# Altium integrated library National Semiconductor Interface.IntLib: 1433 symbols (part 51 of 51)
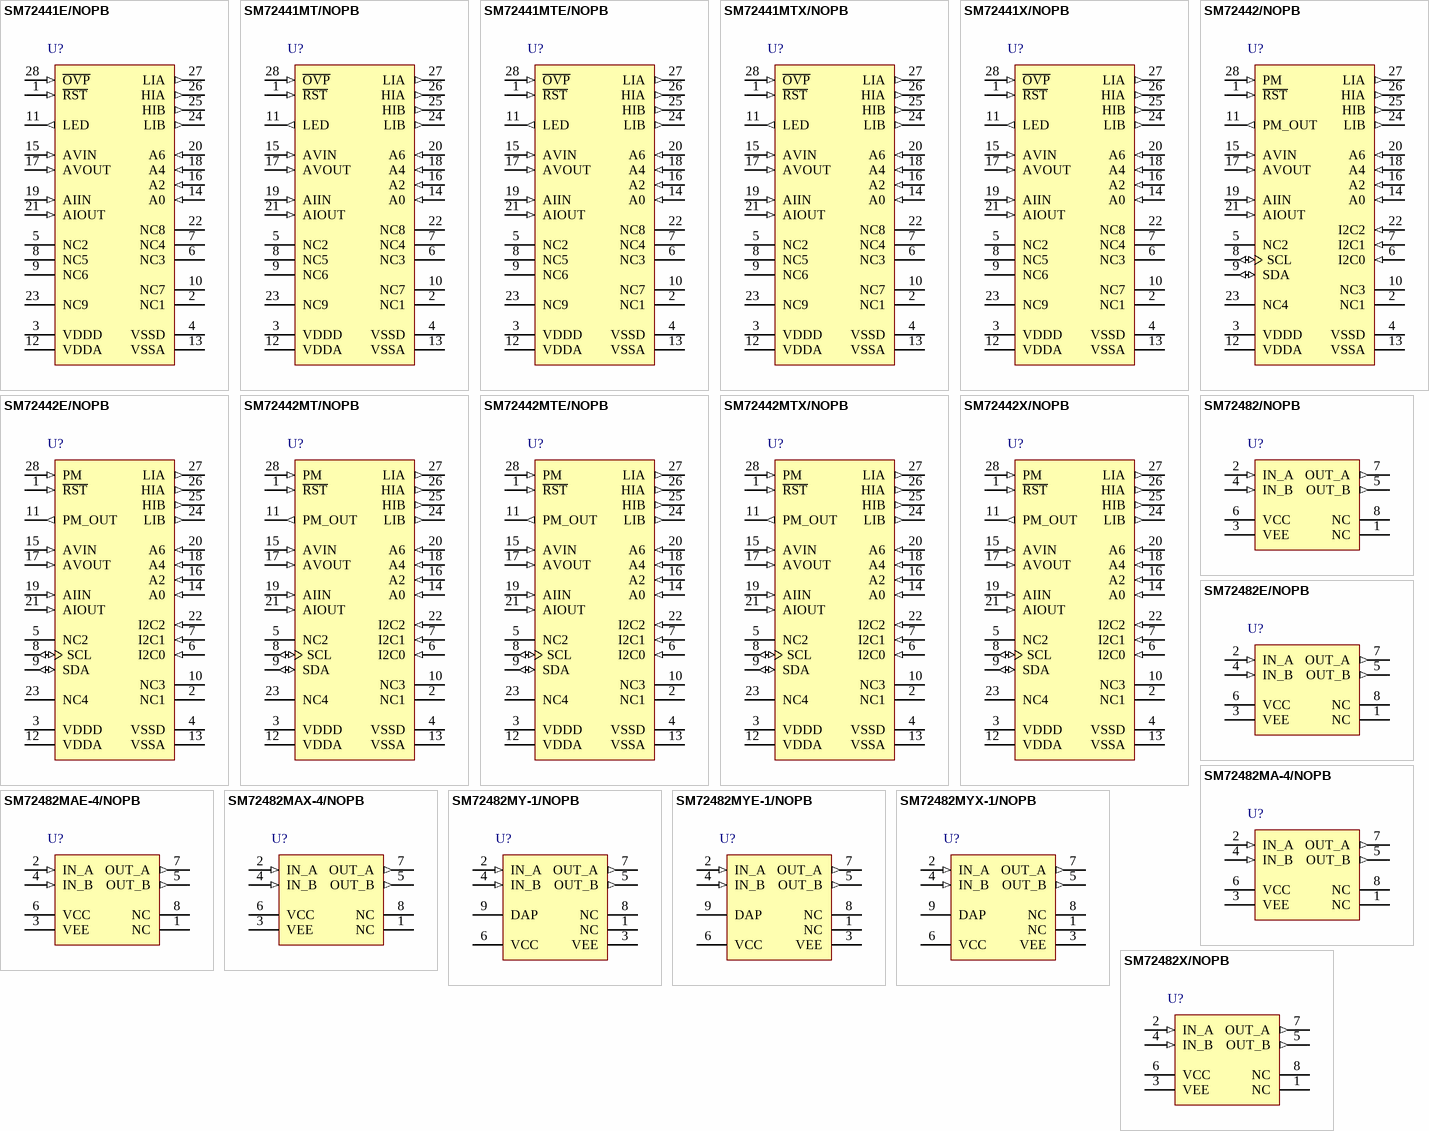
[diagram p174: symbols SM72441E/NOPB to SM72482X/NOPB]

## SM72442MTX/NOPB
designator U?
Programmable Maximum Power Point Tracking Controller for Photovoltaic Solar Panels, 28-pin TSSOP, 2500 Reel; PartNumber: SM72442MTX/NOPB; Manufacturer: National Semiconductor; PackageTopMarking: NSUZXYTTE#*SO2442; PowerWise: N; CompType: Interface IC; High-Reliability: Y; DatasheetVersion: May-2011; PackageVersion: revD, Jan-2005; PackageReference: MTC28; PackageDescription: Molded TSSOP, Jedec, 9.7 x 4.4 x 0.9mm Body, 28 Lead, 0.65mm Pitch; RoHS: Y; PinCount: 28; Code_JEDEC: MO-153-AE; ComponentLink1Description: Manufacturer URL; ComponentLink1URL: http://www.national.com/; ComponentLink2Description: SM72442 Datasheet; ComponentLink2URL: http://www.national.com/ds/SM/SM72442.pdf; ComponentLink3Description: SM72442 Web Page; ComponentLink3URL: http://www.national.com/pf/SM/SM72442.html; ComponentLink4Description: MTC28 Package Page; ComponentLink4URL: http://www.national.com/packaging/folders/mtc28.html
footprint MTC28_N (TSOP, 28-Leads, Body 9.7x4.4mm, Pitch 0.65mm, IPC Medium Density)
footprint MTC28_L (TSOP, 28-Leads, Body 9.7x4.4mm, Pitch 0.65mm, IPC High Density)
footprint MTC28_M (TSOP, 28-Leads, Body 9.7x4.4mm, Pitch 0.65mm, IPC Low Density)
pins: 1 ~{RST} (in) "Active low signal. External reset input signal to the digital circuit.", 2 NC1 "Reserved for test only. This pin should be grounded", 3 VDDD (power) "Digital supply voltage.", 4 VSSD (power) "Digital ground. The ground return for the digital supply and signals.", 5 NC2 "No Connect. This pin should be pulled up to the 5V supply using 10k resistor", 6 I2C0 (in) "Addressing for I2C communication", 7 I2C1 (in) "Addressing for I2C communication", 8 SCL (io) "I2C clock", 9 SDA (io) "I2C data", 10 NC3 "Reserved for test only. This pin should be grounded", 11 PM_OUT (out) "When Panel Mode is active, this pin will output a 400 kHz square wave signal with amplitude of 5V. Otherwise, it will stays low", 12 VDDA (power) "Analog supply voltage. This voltage is also used as the reference voltage.", 13 VSSA (power) "Analog ground. The ground return for the analog supply and signals.", 14 A0 (in) "A/D Input Channel 0. Connect a resistor divider to 5V supply to set the maximum output voltage.", 15 AVIN (in) "Input voltage sensing pin", 16 A2 (in) "A/D Input Channel 2. Connect a resistor divider to 5V supply to set the condition to enter and exit Panel Mode (PM).", 17 AVOUT (in) "Output voltage sensing pin", 18 A4 (in) "A/D Input Channel 4. Connect a resistor divider to 5V supply to set the maximum output current.", 19 AIIN (in) "Input current sensing pin", 20 A6 (in) "A/D Input Channel 6. Connect through resistor divider to 5V supply to set the output voltage slew rate and various PM configurations.", 21 AIOUT (in) "Output current sensing pin", 22 I2C2 (in) "Addressing for I2C communication", 23 NC4 "No Connect. This pin should be connected with 60.4k pull-up resistor to 5V.", 24 LIB (out) "Low side boost PWM output", 25 HIB (out) "High side boost PWM output", 26 HIA (out) "High side buck PWM output", 27 LIA (out) "Low side buck PWM output", 28 PM (in) "Panel Mode Pin. Active low. Pulling this pin low will force the chip in Panel Mode."

## SM72442X/NOPB
designator U?
Programmable Maximum Power Point Tracking Controller for Photovoltaic Solar Panels, 28-pin TSSOP, 2500 Reel; PartNumber: SM72442X/NOPB; Manufacturer: National Semiconductor; PackageTopMarking: NSUZXYTTE#*S02442; PowerWise: N; CompType: Interface IC; High-Reliability: Y; DatasheetVersion: Feb-2011; PackageVersion: revD, Jan-2005; PackageReference: MTC28; PackageDescription: Molded TSSOP, Jedec, 9.7 x 4.4 x 0.9mm Body, 28 Lead, 0.65mm Pitch; RoHS: Y; PinCount: 28; Code_JEDEC: MO-153-AE; ComponentLink1Description: Manufacturer URL; ComponentLink1URL: http://www.national.com/; ComponentLink2Description: SM72442 Datasheet; ComponentLink2URL: http://www.national.com/ds/SM/SM72442.pdf; ComponentLink3Description: SM72442 Web Page; ComponentLink3URL: http://www.national.com/pf/SM/SM72442.html; ComponentLink4Description: MTC28 Package Page; ComponentLink4URL: http://www.national.com/packaging/folders/mtc28.html
footprint MTC28_N (TSOP, 28-Leads, Body 9.7x4.4mm, Pitch 0.65mm, IPC Medium Density)
footprint MTC28_L (TSOP, 28-Leads, Body 9.7x4.4mm, Pitch 0.65mm, IPC High Density)
footprint MTC28_M (TSOP, 28-Leads, Body 9.7x4.4mm, Pitch 0.65mm, IPC Low Density)
pins: 1 ~{RST} (in) "Active low signal. External reset input signal to the digital circuit.", 2 NC1 "Reserved for test only. This pin should be grounded", 3 VDDD (power) "Digital supply voltage.", 4 VSSD (power) "Digital ground. The ground return for the digital supply and signals.", 5 NC2 "No Connect. This pin should be pulled up to the 5V supply using 10k resistor", 6 I2C0 (in) "Addressing for I2C communication", 7 I2C1 (in) "Addressing for I2C communication", 8 SCL (io) "I2C clock", 9 SDA (io) "I2C data", 10 NC3 "Reserved for test only. This pin should be grounded", 11 PM_OUT (out) "When Panel Mode is active, this pin will output a 400 kHz square wave signal with amplitude of 5V. Otherwise, it will stays low", 12 VDDA (power) "Analog supply voltage. This voltage is also used as the reference voltage.", 13 VSSA (power) "Analog ground. The ground return for the analog supply and signals.", 14 A0 (in) "A/D Input Channel 0. Connect a resistor divider to 5V supply to set the maximum output voltage.", 15 AVIN (in) "Input voltage sensing pin", 16 A2 (in) "A/D Input Channel 2. Connect a resistor divider to 5V supply to set the condition to enter and exit Panel Mode (PM).", 17 AVOUT (in) "Output voltage sensing pin", 18 A4 (in) "A/D Input Channel 4. Connect a resistor divider to 5V supply to set the maximum output current.", 19 AIIN (in) "Input current sensing pin", 20 A6 (in) "A/D Input Channel 6. Connect through resistor divider to 5V supply to set the output voltage slew rate and various PM configurations.", 21 AIOUT (in) "Output current sensing pin", 22 I2C2 (in) "Addressing for I2C communication", 23 NC4 "No Connect. This pin should be connected with 60.4k pull-up resistor to 5V.", 24 LIB (out) "Low side boost PWM output", 25 HIB (out) "High side boost PWM output", 26 HIA (out) "High side buck PWM output", 27 LIA (out) "Low side buck PWM output", 28 PM (in) "Panel Mode Pin. Active low. Pulling this pin low will force the chip in Panel Mode."

## SM72482/NOPB
designator U?
SolarMagic Dual 5A Compound Gate Driver, 8-pin Narrow SOIC, 2500 Reel; PartNumber: SM72482/NOPB; Manufacturer: National Semiconductor; PackageTopMarking: NSZXTT*S482; PowerWise: N; CompType: Interface IC; High-Reliability: Y; DatasheetVersion: Feb-2011; PackageVersion: revM, May-2009; PackageReference: M08A; PackageDescription: SOIC Narrow, 4.9 x 3.9 x 1.45mm, 8 Lead, 1.27mm Pitch; RoHS: Y; PinCount: 8; Code_JEDEC: MS-012-AA; Code_IPC: SOIC127P600-8; ComponentLink1Description: Manufacturer URL; ComponentLink1URL: http://www.national.com/; ComponentLink2Description: SM72482 Datasheet; ComponentLink2URL: http://www.national.com/ds/SM/SM72482.pdf; ComponentLink3Description: SM72482 Web Page; ComponentLink3URL: http://www.national.com/pf/SM/SM72482.html; ComponentLink4Description: M08A Package Page; ComponentLink4URL: http://www.national.com/packaging/folders/m08a.html
footprint M08A_N (SOIC, 8-Leads, Body 4.9x3.9mm, Pitch 1.27mm, IPC Medium Density)
footprint M08A_L (SOIC, 8-Leads, Body 4.9x3.9mm, Pitch 1.27mm, IPC High Density)
footprint M08A_M (SOIC, 8-Leads, Body 4.9x3.9mm, Pitch 1.27mm, IPC Low Density)
pins: 1 NC, 2 IN_A (in), 3 VEE (power), 4 IN_B (in), 5 OUT_B (out), 6 VCC (power), 7 OUT_A (out), 8 NC

## SM72482E/NOPB
designator U?
SolarMagic Dual 5A Compound Gate Driver, 8-pin Narrow SOIC, 250 Reel; PartNumber: SM72482E/NOPB; Manufacturer: National Semiconductor; PackageTopMarking: NSZXTT*S482; PowerWise: N; CompType: Interface IC; High-Reliability: Y; DatasheetVersion: Feb-2011; PackageVersion: revM, May-2009; PackageReference: M08A; PackageDescription: SOIC Narrow, 4.9 x 3.9 x 1.45mm, 8 Lead, 1.27mm Pitch; RoHS: Y; PinCount: 8; Code_JEDEC: MS-012-AA; Code_IPC: SOIC127P600-8; ComponentLink1Description: Manufacturer URL; ComponentLink1URL: http://www.national.com/; ComponentLink2Description: SM72482 Datasheet; ComponentLink2URL: http://www.national.com/ds/SM/SM72482.pdf; ComponentLink3Description: SM72482 Web Page; ComponentLink3URL: http://www.national.com/pf/SM/SM72482.html; ComponentLink4Description: M08A Package Page; ComponentLink4URL: http://www.national.com/packaging/folders/m08a.html
footprint M08A_N (SOIC, 8-Leads, Body 4.9x3.9mm, Pitch 1.27mm, IPC Medium Density)
footprint M08A_L (SOIC, 8-Leads, Body 4.9x3.9mm, Pitch 1.27mm, IPC High Density)
footprint M08A_M (SOIC, 8-Leads, Body 4.9x3.9mm, Pitch 1.27mm, IPC Low Density)
pins: 1 NC, 2 IN_A (in), 3 VEE (power), 4 IN_B (in), 5 OUT_B (out), 6 VCC (power), 7 OUT_A (out), 8 NC

## SM72482MA-4/NOPB
designator U?
SolarMagic Dual 5A Compound Gate Driver, 8-pin Narrow SOIC, 95 Rail; PartNumber: SM72482MA-4/NOPB; Manufacturer: National Semiconductor; PackageTopMarking: NSZXTT*S482; PowerWise: N; CompType: Interface IC; High-Reliability: Y; DatasheetVersion: May-2011; PackageVersion: revM, May-2009; PackageReference: M08A; PackageDescription: SOIC Narrow, 4.9 x 3.9 x 1.45mm, 8 Lead, 1.27mm Pitch; RoHS: Y; PinCount: 8; Code_JEDEC: MS-012-AA; Code_IPC: SOIC127P600-8; ComponentLink1Description: Manufacturer URL; ComponentLink1URL: http://www.national.com/; ComponentLink2Description: SM72482 Datasheet; ComponentLink2URL: http://www.national.com/ds/SM/SM72482.pdf; ComponentLink3Description: SM72482 Web Page; ComponentLink3URL: http://www.national.com/pf/SM/SM72482.html; ComponentLink4Description: M08A Package Page; ComponentLink4URL: http://www.national.com/packaging/folders/m08a.html
footprint M08A_N (SOIC, 8-Leads, Body 4.9x3.9mm, Pitch 1.27mm, IPC Medium Density)
footprint M08A_L (SOIC, 8-Leads, Body 4.9x3.9mm, Pitch 1.27mm, IPC High Density)
footprint M08A_M (SOIC, 8-Leads, Body 4.9x3.9mm, Pitch 1.27mm, IPC Low Density)
pins: 1 NC, 2 IN_A (in), 3 VEE (power), 4 IN_B (in), 5 OUT_B (out), 6 VCC (power), 7 OUT_A (out), 8 NC

## SM72482MAE-4/NOPB
designator U?
SolarMagic Dual 5A Compound Gate Driver, 8-pin Narrow SOIC, 250 Reel; PartNumber: SM72482MAE-4/NOPB; Manufacturer: National Semiconductor; PackageTopMarking: NSZXTT*S482; PowerWise: N; CompType: Interface IC; High-Reliability: Y; DatasheetVersion: May-2011; PackageVersion: revM, May-2009; PackageReference: M08A; PackageDescription: SOIC Narrow, 4.9 x 3.9 x 1.45mm, 8 Lead, 1.27mm Pitch; RoHS: Y; PinCount: 8; Code_JEDEC: MS-012-AA; Code_IPC: SOIC127P600-8; ComponentLink1Description: Manufacturer URL; ComponentLink1URL: http://www.national.com/; ComponentLink2Description: SM72482 Datasheet; ComponentLink2URL: http://www.national.com/ds/SM/SM72482.pdf; ComponentLink3Description: SM72482 Web Page; ComponentLink3URL: http://www.national.com/pf/SM/SM72482.html; ComponentLink4Description: M08A Package Page; ComponentLink4URL: http://www.national.com/packaging/folders/m08a.html
footprint M08A_N (SOIC, 8-Leads, Body 4.9x3.9mm, Pitch 1.27mm, IPC Medium Density)
footprint M08A_L (SOIC, 8-Leads, Body 4.9x3.9mm, Pitch 1.27mm, IPC High Density)
footprint M08A_M (SOIC, 8-Leads, Body 4.9x3.9mm, Pitch 1.27mm, IPC Low Density)
pins: 1 NC, 2 IN_A (in), 3 VEE (power), 4 IN_B (in), 5 OUT_B (out), 6 VCC (power), 7 OUT_A (out), 8 NC

## SM72482MAX-4/NOPB
designator U?
SolarMagic Dual 5A Compound Gate Driver, 8-pin Narrow SOIC, 2500 Reel; PartNumber: SM72482MAX-4/NOPB; Manufacturer: National Semiconductor; PackageTopMarking: NSZXTT*S482; PowerWise: N; CompType: Interface IC; High-Reliability: Y; DatasheetVersion: May-2011; PackageVersion: revM, May-2009; PackageReference: M08A; PackageDescription: SOIC Narrow, 4.9 x 3.9 x 1.45mm, 8 Lead, 1.27mm Pitch; RoHS: Y; PinCount: 8; Code_JEDEC: MS-012-AA; Code_IPC: SOIC127P600-8; ComponentLink1Description: Manufacturer URL; ComponentLink1URL: http://www.national.com/; ComponentLink2Description: SM72482 Datasheet; ComponentLink2URL: http://www.national.com/ds/SM/SM72482.pdf; ComponentLink3Description: SM72482 Web Page; ComponentLink3URL: http://www.national.com/pf/SM/SM72482.html; ComponentLink4Description: M08A Package Page; ComponentLink4URL: http://www.national.com/packaging/folders/m08a.html
footprint M08A_N (SOIC, 8-Leads, Body 4.9x3.9mm, Pitch 1.27mm, IPC Medium Density)
footprint M08A_L (SOIC, 8-Leads, Body 4.9x3.9mm, Pitch 1.27mm, IPC High Density)
footprint M08A_M (SOIC, 8-Leads, Body 4.9x3.9mm, Pitch 1.27mm, IPC Low Density)
pins: 1 NC, 2 IN_A (in), 3 VEE (power), 4 IN_B (in), 5 OUT_B (out), 6 VCC (power), 7 OUT_A (out), 8 NC

## SM72482MY-1/NOPB
designator U?
SolarMagic Dual 5A Compound Gate Driver, 8-pin Mini SOIC-EP; PartNumber: SM72482MY-1/NOPB; Manufacturer: National Semiconductor; PackageTopMarking: ZXTT*SD8B; PowerWise: N; CompType: Interface IC; High-Reliability: Y; DatasheetVersion: May-2011; PackageVersion: revA, Nov-2003; PackageReference: MUY08A; PackageDescription: Molded Mini-SO, Exposed Pad, .118 x .118 x .034in Body, 8 Lead, .0256in Pitch; RoHS: Y; PinCount: 8; Code_JEDEC: MO-187-AA; ComponentLink1Description: Manufacturer URL; ComponentLink1URL: http://www.national.com/; ComponentLink2Description: SM72482 Datasheet; ComponentLink2URL: http://www.national.com/ds/SM/SM72482.pdf; ComponentLink3Description: SM72482 Web Page; ComponentLink3URL: http://www.national.com/pf/SM/SM72482.html; ComponentLink4Description: MUY08A Package Page; ComponentLink4URL: http://www.national.com/packaging/folders/muy08a.html
footprint MUY08A_N (TSOP, 8-Leads, Body 3x3mm, Pitch 0.65mm, Thermal Pad, IPC Medium Density)
footprint MUY08A_L (TSOP, 8-Leads, Body 3x3mm, Pitch 0.65mm, Thermal Pad, IPC High Density)
footprint MUY08A_M (TSOP, 8-Leads, Body 3x3mm, Pitch 0.65mm, Thermal Pad, IPC Low Density)
pins: 1 NC, 2 IN_A (in), 3 VEE (power), 4 IN_B (in), 5 OUT_B (out), 6 VCC (power), 7 OUT_A (out), 8 NC, 9 DAP (power)

## SM72482MYE-1/NOPB
designator U?
SolarMagic Dual 5A Compound Gate Driver, 8-pin Mini SOIC-EP; PartNumber: SM72482MYE-1/NOPB; Manufacturer: National Semiconductor; PackageTopMarking: ZXTT*SD8B; PowerWise: N; CompType: Interface IC; High-Reliability: Y; DatasheetVersion: May-2011; PackageVersion: revA, Nov-2003; PackageReference: MUY08A; PackageDescription: Molded Mini-SO, Exposed Pad, .118 x .118 x .034in Body, 8 Lead, .0256in Pitch; RoHS: Y; PinCount: 8; Code_JEDEC: MO-187-AA; ComponentLink1Description: Manufacturer URL; ComponentLink1URL: http://www.national.com/; ComponentLink2Description: SM72482 Datasheet; ComponentLink2URL: http://www.national.com/ds/SM/SM72482.pdf; ComponentLink3Description: SM72482 Web Page; ComponentLink3URL: http://www.national.com/pf/SM/SM72482.html; ComponentLink4Description: MUY08A Package Page; ComponentLink4URL: http://www.national.com/packaging/folders/muy08a.html
footprint MUY08A_N (TSOP, 8-Leads, Body 3x3mm, Pitch 0.65mm, Thermal Pad, IPC Medium Density)
footprint MUY08A_L (TSOP, 8-Leads, Body 3x3mm, Pitch 0.65mm, Thermal Pad, IPC High Density)
footprint MUY08A_M (TSOP, 8-Leads, Body 3x3mm, Pitch 0.65mm, Thermal Pad, IPC Low Density)
pins: 1 NC, 2 IN_A (in), 3 VEE (power), 4 IN_B (in), 5 OUT_B (out), 6 VCC (power), 7 OUT_A (out), 8 NC, 9 DAP (power)

## SM72482MYX-1/NOPB
designator U?
SolarMagic Dual 5A Compound Gate Driver, 8-pin Mini SOIC-EP; PartNumber: SM72482MYX-1/NOPB; Manufacturer: National Semiconductor; PackageTopMarking: ZXTT*SD8B; PowerWise: N; CompType: Interface IC; High-Reliability: Y; DatasheetVersion: May-2011; PackageVersion: revA, Nov-2003; PackageReference: MUY08A; PackageDescription: Molded Mini-SO, Exposed Pad, .118 x .118 x .034in Body, 8 Lead, .0256in Pitch; RoHS: Y; PinCount: 8; Code_JEDEC: MO-187-AA; ComponentLink1Description: Manufacturer URL; ComponentLink1URL: http://www.national.com/; ComponentLink2Description: SM72482 Datasheet; ComponentLink2URL: http://www.national.com/ds/SM/SM72482.pdf; ComponentLink3Description: SM72482 Web Page; ComponentLink3URL: http://www.national.com/pf/SM/SM72482.html; ComponentLink4Description: MUY08A Package Page; ComponentLink4URL: http://www.national.com/packaging/folders/muy08a.html
footprint MUY08A_N (TSOP, 8-Leads, Body 3x3mm, Pitch 0.65mm, Thermal Pad, IPC Medium Density)
footprint MUY08A_L (TSOP, 8-Leads, Body 3x3mm, Pitch 0.65mm, Thermal Pad, IPC High Density)
footprint MUY08A_M (TSOP, 8-Leads, Body 3x3mm, Pitch 0.65mm, Thermal Pad, IPC Low Density)
pins: 1 NC, 2 IN_A (in), 3 VEE (power), 4 IN_B (in), 5 OUT_B (out), 6 VCC (power), 7 OUT_A (out), 8 NC, 9 DAP (power)

## SM72482X/NOPB
designator U?
SolarMagic Dual 5A Compound Gate Driver, 8-pin Narrow SOIC, 2500 Reel; PartNumber: SM72482X/NOPB; Manufacturer: National Semiconductor; PackageTopMarking: NSZXTT*S482; PowerWise: N; CompType: Interface IC; High-Reliability: Y; DatasheetVersion: Feb-2011; PackageVersion: revM, May-2009; PackageReference: M08A; PackageDescription: SOIC Narrow, 4.9 x 3.9 x 1.45mm, 8 Lead, 1.27mm Pitch; RoHS: Y; PinCount: 8; Code_JEDEC: MS-012-AA; Code_IPC: SOIC127P600-8; ComponentLink1Description: Manufacturer URL; ComponentLink1URL: http://www.national.com/; ComponentLink2Description: SM72482 Datasheet; ComponentLink2URL: http://www.national.com/ds/SM/SM72482.pdf; ComponentLink3Description: SM72482 Web Page; ComponentLink3URL: http://www.national.com/pf/SM/SM72482.html; ComponentLink4Description: M08A Package Page; ComponentLink4URL: http://www.national.com/packaging/folders/m08a.html
footprint M08A_N (SOIC, 8-Leads, Body 4.9x3.9mm, Pitch 1.27mm, IPC Medium Density)
footprint M08A_L (SOIC, 8-Leads, Body 4.9x3.9mm, Pitch 1.27mm, IPC High Density)
footprint M08A_M (SOIC, 8-Leads, Body 4.9x3.9mm, Pitch 1.27mm, IPC Low Density)
pins: 1 NC, 2 IN_A (in), 3 VEE (power), 4 IN_B (in), 5 OUT_B (out), 6 VCC (power), 7 OUT_A (out), 8 NC